# Altium integrated library WE-LF SMD Common Mode Power Line Choke.IntLib: 9 symbols
Pins are listed as number, name and electrical type; pins without a type are passive.

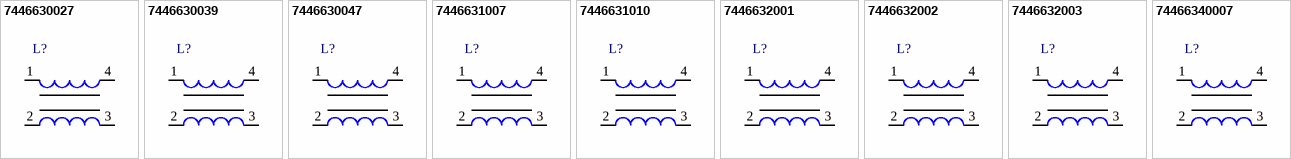
[diagram p0: symbols 7446630027 to 74466340007]

## 7446630027
designator L?
SMD Common Mode Power Line Choke WE-LF SMD, L = 27.0 mH; PartNumber: 7446630027; Inductance: 27.0 mH; DatasheetVersion: ver 2, May-2010; PackageReference: WE-LF-SMD-SH; PackageDescription: SMD Inductor, 4-Leads, Body 18.5 x 23.3 mm; ComponentLink1Description: Manufacturer URL; ComponentLink1URL: http://www.we-online.com; ComponentLink2Description: Datasheet; ComponentLink2URL: http://www.we-online.de/katalog/media/pdf/7446630027.pdf
footprint WE-LF-SMD-SH (SMD Inductor, 4-Leads, Body 18.5x23.3x11.5 mm)
pins: 1, 2, 3, 4

## 7446630039
designator L?
SMD Common Mode Power Line Choke WE-LF SMD, L = 39.0 mH; PartNumber: 7446630039; Inductance: 39.0 mH; DatasheetVersion: ver 2, May-2010; PackageReference: WE-LF-SMD-SH; PackageDescription: SMD Inductor, 4-Leads, Body 18.5 x 23.3 mm; ComponentLink1Description: Manufacturer URL; ComponentLink1URL: http://www.we-online.com; ComponentLink2Description: Datasheet; ComponentLink2URL: http://www.we-online.de/katalog/media/pdf/7446630039.pdf
footprint WE-LF-SMD-SH (SMD Inductor, 4-Leads, Body 18.5x23.3x11.5 mm)
pins: 1, 2, 3, 4

## 7446630047
designator L?
SMD Common Mode Power Line Choke WE-LF SMD, L = 47.0 mH; PartNumber: 7446630047; Inductance: 47.0 mH; DatasheetVersion: ver 2, May-2010; PackageReference: WE-LF-SMD-SH; PackageDescription: SMD Inductor, 4-Leads, Body 18.5 x 23.3 mm; ComponentLink1Description: Manufacturer URL; ComponentLink1URL: http://www.we-online.com; ComponentLink2Description: Datasheet; ComponentLink2URL: http://www.we-online.de/katalog/media/pdf/7446630047.pdf
footprint WE-LF-SMD-SH (SMD Inductor, 4-Leads, Body 18.5x23.3x11.5 mm)
pins: 1, 2, 3, 4

## 7446631007
designator L?
SMD Common Mode Power Line Choke WE-LF SMD, L = 6.80 mH; PartNumber: 7446631007; Inductance: 6.80 mH; DatasheetVersion: ver 2, May-2010; PackageReference: WE-LF-SMD-SH; PackageDescription: SMD Inductor, 4-Leads, Body 18.5 x 23.3 mm; ComponentLink1Description: Manufacturer URL; ComponentLink1URL: http://www.we-online.com; ComponentLink2Description: Datasheet; ComponentLink2URL: http://www.we-online.de/katalog/media/pdf/7446631007.pdf
footprint WE-LF-SMD-SH (SMD Inductor, 4-Leads, Body 18.5x23.3x11.5 mm)
pins: 1, 2, 3, 4

## 7446631010
designator L?
SMD Common Mode Power Line Choke WE-LF SMD, L = 10.0 mH; PartNumber: 7446631010; Inductance: 10.0 mH; DatasheetVersion: ver 2, May-2010; PackageReference: WE-LF-SMD-SH; PackageDescription: SMD Inductor, 4-Leads, Body 18.5 x 23.3 mm; ComponentLink1Description: Manufacturer URL; ComponentLink1URL: http://www.we-online.com; ComponentLink2Description: Datasheet; ComponentLink2URL: http://www.we-online.de/katalog/media/pdf/7446631010.pdf
footprint WE-LF-SMD-SH (SMD Inductor, 4-Leads, Body 18.5x23.3x11.5 mm)
pins: 1, 2, 3, 4

## 7446632001
designator L?
SMD Common Mode Power Line Choke WE-LF SMD, L = 1.00 mH; PartNumber: 7446632001; Inductance: 1.00 mH; DatasheetVersion: ver 2, May-2010; PackageReference: WE-LF-SMD-SH; PackageDescription: SMD Inductor, 4-Leads, Body 18.5 x 23.3 mm; ComponentLink1Description: Manufacturer URL; ComponentLink1URL: http://www.we-online.com; ComponentLink2Description: Datasheet; ComponentLink2URL: http://www.we-online.de/katalog/media/pdf/7446632001.pdf
footprint WE-LF-SMD-SH (SMD Inductor, 4-Leads, Body 18.5x23.3x11.5 mm)
pins: 1, 2, 3, 4

## 7446632002
designator L?
SMD Common Mode Power Line Choke WE-LF SMD, L = 2.20 mH; PartNumber: 7446632002; Inductance: 2.20 mH; DatasheetVersion: ver 2, May-2010; PackageReference: WE-LF-SMD-SH; PackageDescription: SMD Inductor, 4-Leads, Body 18.5 x 23.3 mm; ComponentLink1Description: Manufacturer URL; ComponentLink1URL: http://www.we-online.com; ComponentLink2Description: Datasheet; ComponentLink2URL: http://www.we-online.de/katalog/media/pdf/7446632002.pdf
footprint WE-LF-SMD-SH (SMD Inductor, 4-Leads, Body 18.5x23.3x11.5 mm)
pins: 1, 2, 3, 4

## 7446632003
designator L?
SMD Common Mode Power Line Choke WE-LF SMD, L = 3.30 mH; PartNumber: 7446632003; Inductance: 3.30 mH; DatasheetVersion: ver 2, May-2010; PackageReference: WE-LF-SMD-SH; PackageDescription: SMD Inductor, 4-Leads, Body 18.5 x 23.3 mm; ComponentLink1Description: Manufacturer URL; ComponentLink1URL: http://www.we-online.com; ComponentLink2Description: Datasheet; ComponentLink2URL: http://www.we-online.de/katalog/media/pdf/7446632003.pdf
footprint WE-LF-SMD-SH (SMD Inductor, 4-Leads, Body 18.5x23.3x11.5 mm)
pins: 1, 2, 3, 4

## 74466340007
designator L?
SMD Common Mode Power Line Choke WE-LF SMD, L = 0.70 mH; PartNumber: 74466340007; Inductance: 0.70 mH; DatasheetVersion: ver 2, May-2010; PackageReference: WE-LF-SMD-SH; PackageDescription: SMD Inductor, 4-Leads, Body 18.5 x 23.3 mm; ComponentLink1Description: Manufacturer URL; ComponentLink1URL: http://www.we-online.com; ComponentLink2Description: Datasheet; ComponentLink2URL: http://www.we-online.de/katalog/media/pdf/74466340007.pdf
footprint WE-LF-SMD-SH (SMD Inductor, 4-Leads, Body 18.5x23.3x11.5 mm)
pins: 1, 2, 3, 4